# EAGLE library part AD8561 (library yapo)
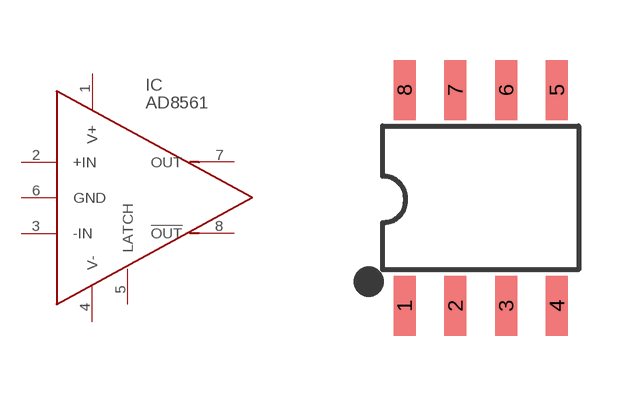
[diagram p39: symbol with the pads of SOIC8; footprint SOIC8]

Designator prefix IC

## AD8561  [SOIC8]
1  V+
2  +IN
3  -IN
4  V-
5  LATCH
6  GND
7  OUT
8  !OUT!

## Footprint SOIC8 (pad centres in mm)
smd 0.55 x 1.5: 1 -1.905,-2.7; 2 -0.635,-2.7; 3 0.635,-2.7; 4 1.905,-2.7; 5 1.905,2.7; 6 0.635,2.7; 7 -0.635,2.7; 8 -1.905,2.7